# EAGLE library part 74HC240N (library NXP_By_element14_Batch_1)
Octal buffer/line driver
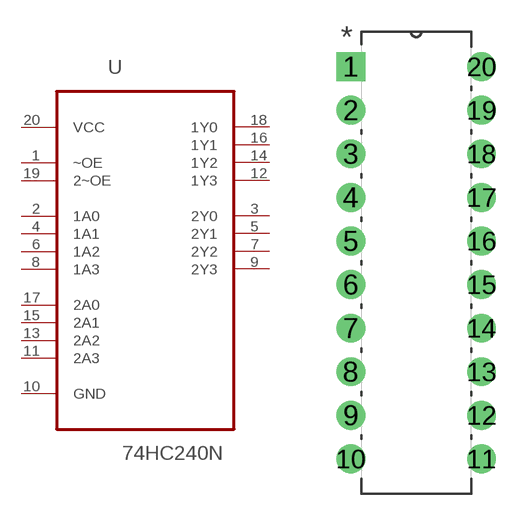
[diagram p57: symbol with the pads of DIP254P762X420-20; footprint DIP254P762X420-20]

Designator prefix U

## 74HC240N (MPN: 74HC240N; OC_FARNELL: 380696; OC_NEWARK: 07WX3701; PACKAGE: DIP-20; SUPPLIER: NXP)  [DIP254P762X420-20]
1  ~OE  in
2  1A0  in
3  2Y0  out
4  1A1  in
5  2Y1  out
6  1A2  in
7  2Y2  out
8  1A3  in
9  2Y3  out
10  GND  pas
11  2A3  in
12  1Y3  out
13  2A2  in
14  1Y2  out
15  2A1  in
16  1Y1  out
17  2A0  in
18  1Y0  out
19  2~OE  in
20  VCC  pwr

## Footprint DIP254P762X420-20 (pad centres in mm)
drill 1.118 square: 1 -7.62,22.86
drill 1.118: 2 -7.62,20.32; 3 -7.62,17.78; 4 -7.62,15.24; 5 -7.62,12.7; 6 -7.62,10.16; 7 -7.62,7.62; 8 -7.62,5.08; 9 -7.62,2.54; 10 -7.62,0; 11 0,0; 12 0,2.54; 13 0,5.08; 14 0,7.62; 15 0,10.16; 16 0,12.7; 17 0,15.24; 18 0,17.78; 19 0,20.32; 20 0,22.86